# Altium integrated library ASEK-32.768KHZ-L-R-T.IntLib: 1 symbol
Pins are listed as number, name and electrical type; pins without a type are passive.

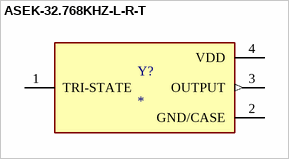
[diagram p0: symbol ASEK-32.768KHZ-L-R-T]

## ASEK-32.768KHZ-L-R-T
designator Y?
MP: ASEK-32.768KHZ-L-R-T; Availability: Unavailable; Price: None; Package: None; Value: *
footprint XTAL_ASEK-32.768KHZ-L-R-T
pins: 1 TRI-STATE, 2 GND/CASE, 3 OUTPUT (out), 4 VDD (power)